# Altium schematic symbol library 1.47.SCHLIB: 44 symbols
Pins are listed as number, name and electrical type; pins without a type are passive.

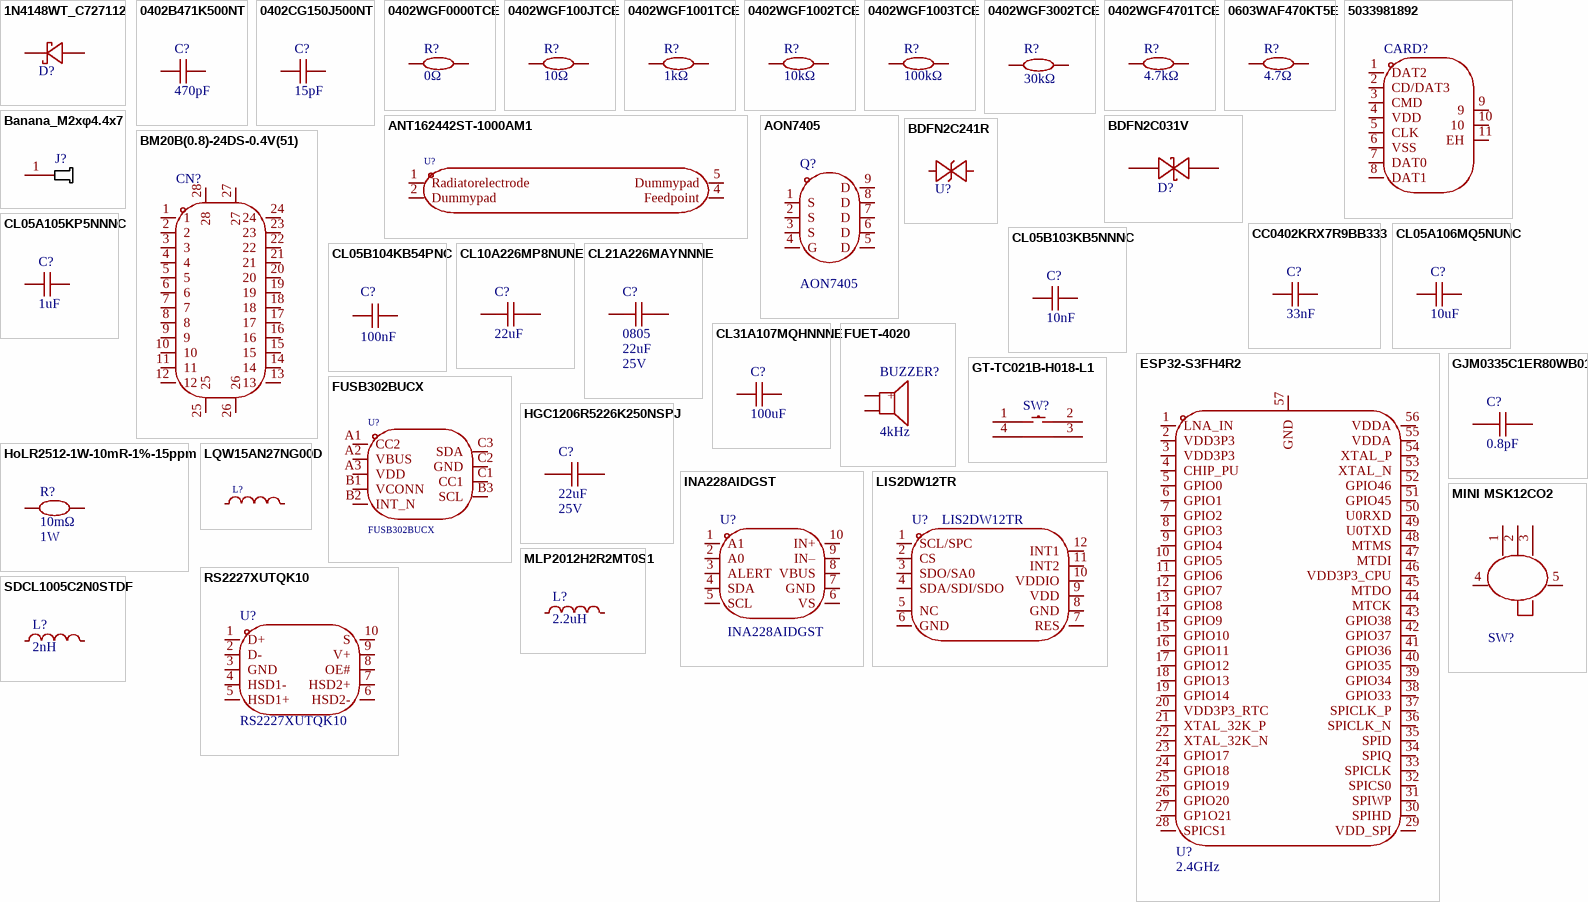
[diagram p0: symbols 1N4148WT_C727112 to SDCL1005C2N0STDF]

## 1N4148WT_C727112
designator D?, comment 1N4148WT  (value not drawn)
二极管配置:独立式;正向压降(Vf):1.25V@150mA;直流反向耐压(Vr):75V;平均整流电流(Io):125mA;反向恢复时间(trr):4ns;; Manufacturer: TWGMC(台湾迪嘉); Symbol: 1N4148WT_C727112; Add into BOM: yes; Diode Configuration: 独立式; Reverse Voltage (Vr): 75V; Average Rectified Current (Io): 125mA; Reverse Leakage Current: 1uA@75V; Reverse Recovery Time (trr): 4ns; Device: 1N4148WT_C727112; LCSC Part Name: 电压:75V 电流:125mA; Supplier Part: C727112; Manufacturer Part: 1N4148WT; Supplier Footprint: SOD-523; JLCPCB Part Class: 扩展库; Datasheet: https://atta.szlcsc.com/upload/public/pdf/source/20200828/C727112_FCA71CBB186A515518FBD85DA79D41CF.pdf; Supplier: LCSC; Convert to PCB: yes; Forward Voltage (Vf@If): 1.25V@150mA; Operating Temperature: -65℃~+150℃@(Tj); Comment_1: 1N4148WT
footprint SOD-523_L1.2-W0.8-LS1.6-RD
3D model SOD-523_L1.2-W0.8-H0.7-LS1.6
pins: 1 C, 2 A

## 0402B471K500NT
designator C?, comment 470pF
容值:470pF;精度:±10%;额定电压:50V;材质(温度系数):X7R;; Manufacturer: FH(风华); Symbol: 0402B471K500NT; Add into BOM: yes; Tolerance: ±10%; Voltage Rated: 50V; Temperature Coefficient: X7R; Device: 0402B471K500NT; LCSC Part Name: 470pF ±10% 50V; Supplier Part: C1537; Manufacturer Part: 0402B471K500NT; Supplier Footprint: 0402; JLCPCB Part Class: 扩展库; Datasheet: https://atta.szlcsc.com/upload/public/pdf/source/20200305/C486355_26A10D38EF8C2A5C37091D0039909270.pdf; Supplier: LCSC; Convert to PCB: yes; Comment_1: 470pF; Value: 470pF
footprint C0402
3D model C0402_L1.0-W0.5-H0.5
pins: 1, 2

## 0402CG150J500NT
designator C?, comment 15pF
容值:15pF;精度:±5%;额定电压:50V;材质(温度系数):C0G;; Manufacturer: FH(风华); Symbol: 0402CG150J500NT; Add into BOM: yes; Tolerance: ±5%; Voltage Rated: 50V; Temperature Coefficient: C0G; Device: 0402CG150J500NT; LCSC Part Name: 15pF ±5% 50V; Supplier Part: C1548; Manufacturer Part: 0402CG150J500NT; Supplier Footprint: 0402; JLCPCB Part Class: 基础库; Datasheet: https://atta.szlcsc.com/upload/public/pdf/source/20200305/C486355_26A10D38EF8C2A5C37091D0039909270.pdf; Supplier: LCSC; Convert to PCB: yes; Comment_1: 15pF; Value: 15pF
footprint C0402
3D model C0402_L1.0-W0.5-H0.5
pins: 1, 2

## 0402WGF0000TCE
designator R?, comment 0Ω
电阻类型:厚膜电阻;阻值:0Ω;精度:±1%;功率:62.5mW;最大工作电压:50V;温度系数:±800ppm/℃;; Manufacturer: UNI-ROYAL(厚声); Symbol: 0402WGF0000TCE; Add into BOM: yes; Tolerance: ±1%; Power(Watts): 62.5mW; Overload Voltage (Max): 50V; Device: 0402WGF0000TCE; Supplier: LCSC; Manufacturer Part: 0402WGF0000TCE; Supplier Part: C17168; JLCPCB Part Class: 基础库; LCSC Part Name: 0Ω ±1% 62.5mW 厚膜电阻; Supplier Footprint: 0402; Datasheet: https://atta.szlcsc.com/upload/public/pdf/source/20200306/C422600_1E6D84923E4A46A82E41ADD87F860B5C.pdf; Convert to PCB: yes; Type: 厚膜电阻; Temperature Coefficient: ±800ppm/℃; Operating Temperature Range: -55℃~+155℃; Comment_1: 0Ω; Value: 0Ω
footprint R0402
3D model R0402_L1.0-W0.5-H0.5
pins: 1, 2

## 0402WGF100JTCE
designator R?, comment 10Ω
电阻类型:厚膜电阻;阻值:10Ω;精度:±1%;功率:62.5mW;最大工作电压:50V;温度系数:±200ppm/℃;; Manufacturer: UNI-ROYAL(厚声); Symbol: 0402WGF100JTCE; Add into BOM: yes; Tolerance: ±1%; Power(Watts): 62.5mW; Overload Voltage (Max): 50V; Device: 0402WGF100JTCE; Supplier: LCSC; Manufacturer Part: 0402WGF100JTCE; Supplier Part: C25077; JLCPCB Part Class: 基础库; LCSC Part Name: 10Ω ±1% 62.5mW 厚膜电阻; Supplier Footprint: 0402; Datasheet: https://atta.szlcsc.com/upload/public/pdf/source/20200306/C422600_1E6D84923E4A46A82E41ADD87F860B5C.pdf; Convert to PCB: yes; Type: 厚膜电阻; Temperature Coefficient: ±200ppm/℃; Operating Temperature Range: -55℃~+155℃; Comment_1: 10Ω; Value: 10Ω
footprint R0402
3D model R0402_L1.0-W0.5-H0.5
pins: 1, 2

## 0402WGF1001TCE
designator R?, comment 1kΩ
电阻类型:厚膜电阻;阻值:1kΩ;精度:±1%;功率:62.5mW;最大工作电压:50V;温度系数:±100ppm/℃;; Manufacturer: UNI-ROYAL(厚声); Symbol: 0402WGF1001TCE; Add into BOM: yes; Tolerance: ±1%; Power(Watts): 62.5mW; Overload Voltage (Max): 50V; Device: 0402WGF1001TCE; Supplier: LCSC; Manufacturer Part: 0402WGF1001TCE; Supplier Part: C11702; JLCPCB Part Class: 基础库; LCSC Part Name: 1kΩ ±1% 62.5mW 厚膜电阻; Supplier Footprint: 0402; Datasheet: https://atta.szlcsc.com/upload/public/pdf/source/20200306/C422600_1E6D84923E4A46A82E41ADD87F860B5C.pdf; Convert to PCB: yes; Type: 厚膜电阻; Temperature Coefficient: ±100ppm/℃; Operating Temperature Range: -55℃~+155℃; Comment_1: 1kΩ; Value: 1kΩ
footprint R0402
3D model R0402_L1.0-W0.5-H0.5
pins: 1, 2

## 0402WGF1002TCE
designator R?, comment 10kΩ
电阻类型:厚膜电阻;阻值:10kΩ;精度:±1%;功率:62.5mW;最大工作电压:50V;温度系数:±100ppm/℃;; Manufacturer: UNI-ROYAL(厚声); Symbol: 0402WGF1002TCE; Add into BOM: yes; Tolerance: ±1%; Power(Watts): 62.5mW; Overload Voltage (Max): 50V; Device: 0402WGF1002TCE; LCSC Part Name: 10kΩ ±1% 62.5mW 厚膜电阻; Supplier Part: C25744; Manufacturer Part: 0402WGF1002TCE; Supplier Footprint: 0402; JLCPCB Part Class: 基础库; Datasheet: https://atta.szlcsc.com/upload/public/pdf/source/20200306/C422600_1E6D84923E4A46A82E41ADD87F860B5C.pdf; Supplier: LCSC; Convert to PCB: yes; Type: 厚膜电阻; Temperature Coefficient: ±100ppm/℃; Operating Temperature Range: -55℃~+155℃; Comment_1: 10kΩ; Value: 10kΩ
footprint R0402
3D model R0402_L1.0-W0.5-H0.5
pins: 1, 2

## 0402WGF1003TCE
designator R?, comment 100kΩ
电阻类型:厚膜电阻;阻值:100kΩ;精度:±1%;功率:62.5mW;最大工作电压:50V;温度系数:±100ppm/℃;; Manufacturer: UNI-ROYAL(厚声); Symbol: 0402WGF1003TCE; Add into BOM: yes; Tolerance: ±1%; Power(Watts): 62.5mW; Overload Voltage (Max): 50V; Device: 0402WGF1003TCE; Supplier: LCSC; Manufacturer Part: 0402WGF1003TCE; Supplier Part: C25741; JLCPCB Part Class: 基础库; LCSC Part Name: 100kΩ ±1% 62.5mW 厚膜电阻; Supplier Footprint: 0402; Datasheet: https://atta.szlcsc.com/upload/public/pdf/source/20200306/C422600_1E6D84923E4A46A82E41ADD87F860B5C.pdf; Convert to PCB: yes; Type: 厚膜电阻; Temperature Coefficient: ±100ppm/℃; Operating Temperature Range: -55℃~+155℃; Comment_1: 100kΩ; Value: 100kΩ
footprint R0402
3D model R0402_L1.0-W0.5-H0.5
pins: 1, 2

## 0402WGF3002TCE
designator R?, comment 30kΩ
电阻类型:厚膜电阻;阻值:30kΩ;精度:±1%;功率:62.5mW;最大工作电压:50V;温度系数:±100ppm/℃;; Manufacturer: UNI-ROYAL(厚声); Symbol: 0402WGF3002TCE; Add into BOM: yes; Tolerance: ±1%; Power(Watts): 62.5mW; Overload Voltage (Max): 50V; Device: 0402WGF3002TCE; Supplier: LCSC; Manufacturer Part: 0402WGF3002TCE; Supplier Part: C25776; JLCPCB Part Class: 扩展库; LCSC Part Name: 30kΩ ±1% 62.5mW 厚膜电阻; Supplier Footprint: 0402; Datasheet: https://atta.szlcsc.com/upload/public/pdf/source/20200306/C422600_1E6D84923E4A46A82E41ADD87F860B5C.pdf; Convert to PCB: yes; Type: 厚膜电阻; Temperature Coefficient: ±100ppm/℃; Operating Temperature Range: -55℃~+155℃; Comment_1: 30kΩ; Value: 30kΩ
footprint R0402
3D model R0402_L1.0-W0.5-H0.5
pins: 1, 2

## 0402WGF4701TCE
designator R?, comment 4.7kΩ
电阻类型:厚膜电阻;阻值:4.7kΩ;精度:±1%;功率:62.5mW;最大工作电压:50V;温度系数:±100ppm/℃;; Manufacturer: UNI-ROYAL(厚声); Symbol: 0402WGF4701TCE; Add into BOM: yes; Tolerance: ±1%; Power(Watts): 62.5mW; Overload Voltage (Max): 50V; Device: 0402WGF4701TCE; Supplier: LCSC; Manufacturer Part: 0402WGF4701TCE; Supplier Part: C25900; JLCPCB Part Class: 基础库; LCSC Part Name: 4.7kΩ ±1% 62.5mW 厚膜电阻; Supplier Footprint: 0402; Datasheet: https://atta.szlcsc.com/upload/public/pdf/source/20200306/C422600_1E6D84923E4A46A82E41ADD87F860B5C.pdf; Convert to PCB: yes; Type: 厚膜电阻; Temperature Coefficient: ±100ppm/℃; Operating Temperature Range: -55℃~+155℃; Comment_1: 4.7kΩ; Value: 4.7kΩ
footprint R0402
3D model R0402_L1.0-W0.5-H0.5
pins: 1, 2

## 0603WAF470KT5E
designator R?, comment 4.7Ω
电阻类型:厚膜电阻;阻值:4.7Ω;精度:±1%;功率:100mW;最大工作电压:75V;温度系数:±400ppm/℃;; Manufacturer: UNI-ROYAL(厚声); Symbol: 0603WAF470KT5E; Add into BOM: yes; Tolerance: ±1%; Power(Watts): 100mW; Overload Voltage (Max): 75V; Device: 0603WAF470KT5E; Supplier: LCSC; Manufacturer Part: 0603WAF470KT5E; Supplier Part: C23164; JLCPCB Part Class: 基础库; LCSC Part Name: 4.7Ω ±1% 100mW 厚膜电阻; Supplier Footprint: 0603; Datasheet: https://atta.szlcsc.com/upload/public/pdf/source/20200306/C422600_1E6D84923E4A46A82E41ADD87F860B5C.pdf; Convert to PCB: yes; Type: 厚膜电阻; Temperature Coefficient: ±400ppm/℃; Operating Temperature Range: -55℃~+155℃; Comment_1: 4.7Ω; Value: 4.7Ω
footprint R0603
3D model R0603
pins: 1, 2

## 5033981892
designator CARD?  (value not drawn)
卡连接方式:自弹式;卡类型:MicroSD卡(TF卡);连接器类型:卡座;本体最大高度:1.28mm;触头镀层:金;工作温度范围:-25℃~+85℃;; Manufacturer: MOLEX; Symbol: 503398-1892; Add into BOM: yes; Card Connection Mode: 自弹式; Connector Type: 卡座; Maximum Body Height: 1.28mm; Device: 5033981892; LCSC Part Name: 自弹式 MicroSD卡(TF卡) 卡座; Supplier Part: C428492; Manufacturer Part: 5033981892; Supplier Footprint: SMD; JLCPCB Part Class: 扩展库; Datasheet: https://atta.szlcsc.com/upload/public/pdf/source/20190912/C428492_A41EF83BB8A3DB8C0B39EF65DFC54013.pdf; Supplier: LCSC; Convert to PCB: yes; Card Type: MicroSD卡(TF卡); Contact Plating: 金; Operating Temperature Range: -25℃~+85℃; Comment_1: 5033981892
footprint TF-SMD_503398-1892
3D model TF-SMD_503398-1892
pins: 1 DAT2, 2 CD/DAT3, 3 CMD, 4 VDD, 5 CLK, 6 VSS, 7 DAT0, 8 DAT1, 9, 10, 11 EH

## ANT162442ST-1000AM1
designator U?  (value not drawn)
天线类型:芯片天线;中心频点:2.442GHz;驻波比:3;; Manufacturer: TDK; Add into BOM: yes; Antenna Type: 芯片天线; VSWR: 3; Symbol: ANT162442ST-1000AM1; Device: ANT162442ST-1000AM1; Supplier: LCSC; Supplier Part: C5119334; Manufacturer Part: ANT162442ST-1000AM1; JLCPCB Part Class: 扩展库; LCSC Part Name: ANT162442ST-1000AM1; Supplier Footprint: SMD; Datasheet: https://atta.szlcsc.com/upload/public/pdf/source/20220726/5250FEEEC00E5085DF56EA09B238E8B2.pdf; Convert to PCB: yes; Central Frequency: 2.442GHz; Comment_1: ANT162442ST-1000AM1
footprint ANT-SMD_6P-L1.6-W0.8-L
3D model ANT-SMD_6P-L1.6-W0.8-H0.4
pins: 1 Radiatorelectrode, 2 Dummypad, 4 Feedpoint, 5 Dummypad

## AON7405
designator Q?
类型:1个P沟道;漏源电压(Vdss):30V;连续漏极电流(Id):50A;功率(Pd):6.25W;导通电阻(RDS(on)@Vgs,Id):6.2mΩ@10V,20A;阈值电压(Vgs(th)@Id):2.8V@250uA;; Manufacturer: AOS; Add into BOM: yes; Type: 1个P沟道; Drain Source Voltage (Vdss): 30V; Continuous Drain Current (Id): 50A; Power Dissipation (Pd): 6.25W; Symbol: AON7405; Device: AON7405; LCSC Part Name: 1个P沟道 耐压:30V 电流:50A; Supplier Part: C431194; Supplier Footprint: DFN-8(3.3x3.3); JLCPCB Part Class: 扩展库; Datasheet: https://atta.szlcsc.com/upload/public/pdf/source/20190920/C431194_88D1A85EB5F03F954D3EA863BE064D96.pdf; Supplier: LCSC; Convert to PCB: yes; Drain Source On Resistance (RDS(on)@Vgs,Id): 6.2mΩ@10V,20A; Gate Threshold Voltage (Vgs(th)@Id): 2.8V@250uA; Comment_1: AON7405; Manufacturer Part: AON7405
footprint DFN-8_L3.3-W3.3-P0.65-BL-3
3D model DFN-8_L3.3-W3.3-P0.65-BL-3
pins: 1 S, 2 S, 3 S, 4 G, 5 D, 6 D, 7 D, 8 D, 9 D

## Banana_M2xφ4.4x7
designator J?
K2台阶插座,Banana_M2xφ4.4x7; Add into BOM: yes; Symbol: Banana_M2xφ4.4x7; Device: Banana_M2xφ4.4x7; Convert to PCB: yes; Comment_1: Banana_M2xφ4.4x7
footprint Banana_M2xφ4.4x7_2
3D model Banana_M2xφ4.4x7 v1
pins: 1

## BDFN2C031V
designator D?  (value not drawn)
反向截止电压(Vrwm):3.3V;最大钳位电压:8V;峰值脉冲电流(Ipp)@10/1000us:11A@8/20us;击穿电压:3.7V;; Manufacturer: BORN(伯恩半导体); Add into BOM: yes; Reverse Stand-Off Voltage (Vrwm): 3.3V; Maximum Clamping Voltage: 8V; Breakdown Voltage: 3.7V; Type: TVS; Symbol: BDFN2C031V; Device: BDFN2C031V; Supplier: LCSC; Supplier Part: C152027; Manufacturer Part: BDFN2C031V; JLCPCB Part Class: 扩展库; LCSC Part Name: 双向TVS 3.3V截止 11A峰值脉冲; Supplier Footprint: DFN-2L; Datasheet: https://atta.szlcsc.com/upload/public/pdf/source/20180207/C152027_15179949174661359126.pdf; Convert to PCB: yes; Peak Pulse Current (Ipp)@10/1000us: 11A@8/20us; Comment_1: BDFN2C031V
footprint TSSLP-2-4_L1.0-W0.6-P0.65-BI
3D model TSSLP-2-4_L1.0-W0.6-P0.65-BI
pins: 1, 2

## BDFN2C241R
designator U?  (value not drawn)
反向截止电压(Vrwm):24V;; Manufacturer: BORN(伯恩半导体); Add into BOM: yes; Reverse Stand-Off Voltage (Vrwm): 24V; Symbol: BDFN2C241R; Device: BDFN2C241R; LCSC Part Name: BDFN2C241R; Supplier Part: C18199521; Manufacturer Part: BDFN2C241R; Supplier Footprint: DFN1006; Datasheet: https://atta.szlcsc.com/upload/public/pdf/source/20230925/6B9DC4383CBC032E3F8EFD077BCC83F2.pdf; Supplier: LCSC; Convert to PCB: yes; Type: ESD; Comment_1: BDFN2C241R
footprint DFN1006-2L-BI
3D model DFN1006-2L-BI
pins: 1 K, 2 A

## BM20B(0.8)-24DS-0.4V(51)
designator CN?  (value not drawn)
PIN总数:-;间距:0.4mm;公母:母;安装方式:立贴;行数:2;额定电流:300mA;工作温度范围:-35℃~+85℃;; Manufacturer: HRS(广濑); Add into BOM: yes; Pitch: 0.4mm; Gender: 母; Current Rating (Max): 300mA; Symbol: BM20B(0.8)-24DS-0.4V(51); Device: BM20B(0.8)-24DS-0.4V(51); LCSC Part Name: 间距:0.4mm 母 立贴; Supplier Part: C424537; Manufacturer Part: BM20B(0.8)-24DS-0.4V(51); Supplier Footprint: SMD,P=0.4mm; JLCPCB Part Class: 扩展库; Datasheet: https://atta.szlcsc.com/upload/public/pdf/source/20190903/C424543_A61D720FD0DF8CC4A194B7C6C8E1C4BB.pdf; Supplier: LCSC; Convert to PCB: yes; Number of Pins: -; Mounting Style: 立贴; Number of Rows: 2; Contact Plating: 金; Operating Temperature Range: -35℃~+85℃; Comment_1: BM20B(0.8)-24DS-0.4V(51)
footprint CONN-SMD_BM20B-0.8-24DS-0.4V-51
3D model CONN-SMD_BM20B-0.8-24DS-0.4V-51
pins: 1, 2, 3, 4, 5, 6, 7, 8, 9, 10, 11, 12, 13, 14, 15, 16, 17, 18, 19, 20, 21, 22, 23, 24, 25, 26, 27, 28

## CC0402KRX7R9BB333
designator C?, comment 33nF
容值:33nF;精度:±10%;额定电压:50V;材质(温度系数):X7R;; Manufacturer: YAGEO(国巨); Symbol: CC0402KRX7R9BB333; Add into BOM: yes; Tolerance: ±10%; Voltage Rated: 50V; Temperature Coefficient: X7R; Device: CC0402KRX7R9BB333; Supplier: LCSC; Manufacturer Part: CC0402KRX7R9BB333; Supplier Part: C106862; JLCPCB Part Class: 扩展库; LCSC Part Name: 33nF ±10% 50V; Supplier Footprint: 0402; Datasheet: https://atta.szlcsc.com/upload/public/pdf/source/20170919/C131031_1505787245477976978.pdf; Convert to PCB: yes; Comment_1: 33nF; Value: 33nF
footprint C0402
3D model C0402_L1.0-W0.5-H0.5
pins: 1, 2

## CL05A105KP5NNNC
designator C?, comment 1uF
容值:1uF;精度:±10%;额定电压:10V;材质(温度系数):X5R;; Manufacturer: SAMSUNG(三星); Symbol: CL05A105KP5NNNC; Add into BOM: yes; Tolerance: ±10%; Voltage Rated: 10V; Temperature Coefficient: X5R; Device: CL05A105KP5NNNC; Supplier: LCSC; Manufacturer Part: CL05A105KP5NNNC; Supplier Part: C14445; JLCPCB Part Class: 扩展库; LCSC Part Name: 1uF ±10% 10V; Supplier Footprint: 0402; Datasheet: https://atta.szlcsc.com/upload/public/pdf/source/20160218/1457707763339.pdf; Convert to PCB: yes; Comment_1: 1uF; Value: 1uF
footprint C0402
3D model C0402_L1.0-W0.5-H0.5
pins: 1, 2

## CL05A106MQ5NUNC
designator C?, comment 10uF
容值:10uF;精度:±20%;额定电压:6.3V;材质(温度系数):X5R;; Manufacturer: SAMSUNG(三星); Symbol: CL05A106MQ5NUNC; Add into BOM: yes; Tolerance: ±20%; Voltage Rated: 6.3V; Temperature Coefficient: X5R; Device: CL05A106MQ5NUNC; Supplier: LCSC; Manufacturer Part: CL05A106MQ5NUNC; Value: 10uF; Supplier Part: C15525; JLCPCB Part Class: 基础库; LCSC Part Name: 10uF ±20% 6.3V; Supplier Footprint: 0402; Datasheet: https://atta.szlcsc.com/upload/public/pdf/source/20220823/2B02EE04F8F211D38A52DCB16EB6BEBA.pdf; Convert to PCB: yes; Comment_1: 10uF
footprint C0402
3D model C0402_L1.0-W0.5-H0.5
pins: 1, 2

## CL05B103KB5NNNC
designator C?, comment 10nF
容值:10nF;精度:±10%;额定电压:50V;材质(温度系数):X7R;; Manufacturer: SAMSUNG(三星); Symbol: CL05B103KB5NNNC; Add into BOM: yes; Tolerance: ±10%; Voltage Rated: 50V; Temperature Coefficient: X7R; Device: CL05B103KB5NNNC; LCSC Part Name: 10nF ±10% 50V; Supplier Part: C15195; Manufacturer Part: CL05B103KB5NNNC; Supplier Footprint: 0402; JLCPCB Part Class: 基础库; Datasheet: https://atta.szlcsc.com/upload/public/pdf/source/20160218/1457707763339.pdf; Supplier: LCSC; Convert to PCB: yes; Value: 10nF; Comment_1: 10nF
footprint C0402
3D model C0402_L1.0-W0.5-H0.5
pins: 1, 2

## CL05B104KB54PNC
designator C?, comment 100nF
容值:100nF;精度:±10%;额定电压:50V;材质(温度系数):X7R;; Manufacturer: SAMSUNG(三星); Symbol: CL05B104KB54PNC; Add into BOM: yes; Tolerance: ±10%; Voltage Rated: 50V; Temperature Coefficient: X7R; Device: CL05B104KB54PNC; LCSC Part Name: 100nF ±10% 50V; Supplier Part: C307331; Manufacturer Part: CL05B104KB54PNC; Supplier Footprint: 0402; JLCPCB Part Class: 基础库; Datasheet: https://atta.szlcsc.com/upload/public/pdf/source/20160218/1457707763339.pdf; Supplier: LCSC; Convert to PCB: yes; Value: 100nF; Comment_1: 100nF
footprint C0402
3D model C0402_L1.0-W0.5-H0.5
pins: 1, 2

## CL10A226MP8NUNE
designator C?, comment 22uF
容值:22uF;精度:±20%;额定电压:10V;材质(温度系数):X5R;; Manufacturer: SAMSUNG(三星); Symbol: CL10A226MP8NUNE; Add into BOM: yes; Tolerance: ±20%; Voltage Rated: 10V; Temperature Coefficient: X5R; Device: CL10A226MP8NUNE; LCSC Part Name: 22uF ±20% 10V; Supplier Part: C86295; Manufacturer Part: CL10A226MP8NUNE; Supplier Footprint: 0603; JLCPCB Part Class: 扩展库; Datasheet: https://atta.szlcsc.com/upload/public/pdf/source/20160218/1457707763339.pdf; Supplier: LCSC; Convert to PCB: yes; Value: 22uF; Comment_1: 22uF
footprint C0603
3D model C0603_L1.6-W0.8-H0.8
pins: 1, 2

## CL21A226MAYNNNE
designator C?, comment Supplier Footprint: 0805  Voltage Rated: 25V  (hidden comment: 22uF)
容值:22uF;精度:±20%;额定电压:25V;材质(温度系数):X5R;; Manufacturer: SAMSUNG(三星); Symbol: CL21A226MAYNNNE; Add into BOM: yes; Tolerance: ±20%; Temperature Coefficient: X5R; Device: CL21A226MAYNNNE; LCSC Part Name: 22uF ±20% 25V; Supplier Part: C602037; Manufacturer Part: CL21A226MAYNNNE; JLCPCB Part Class: 扩展库; Datasheet: https://atta.szlcsc.com/upload/public/pdf/source/20200609/C602037_1A0D619693E608A1BF6E80154254E2DB.pdf; Supplier: LCSC; Convert to PCB: yes; Value: 22uF; Comment_1: 22uF
footprint C0805
3D model C0805_L2.0-W1.3-H1.3
pins: 1, 2

## CL31A107MQHNNNE
designator C?, comment 100uF
容值:100uF;精度:±20%;额定电压:6.3V;材质(温度系数):X5R;; Manufacturer: SAMSUNG(三星); Symbol: CL31A107MQHNNNE; Add into BOM: yes; Tolerance: ±20%; Voltage Rated: 6.3V; Temperature Coefficient: X5R; Device: CL31A107MQHNNNE; Supplier: LCSC; Manufacturer Part: CL31A107MQHNNNE; Value: 100uF; Supplier Part: C15008; JLCPCB Part Class: 基础库; LCSC Part Name: 100uF ±20% 6.3V; Supplier Footprint: 1206; Datasheet: https://atta.szlcsc.com/upload/public/pdf/source/20160218/1457707763339.pdf; Convert to PCB: yes; Comment_1: 100uF
footprint C1206
3D model C1206_L3.2-W1.6-H1.3
pins: 1, 2

## ESP32-S3FH4R2
designator U?, comment 2.4GHz
核心处理器:LX7芯片;频率:2.4GHz;天线形式:-;发射功率:21dBm;接收灵敏度:-;; Manufacturer: ESPRESSIF(乐鑫); Symbol: ESP32-S3FH4R2; Add into BOM: yes; Core Processor: LX7芯片; Support Interface: I2C；GPIO；JTAG；IrDA；SPI；I2S；PCM；SDIO；PWM；ADC; Output Power: 21dBm; Device: ESP32-S3FH4R2; LCSC Part Name: ESP32-S3FH4R2; Supplier Part: C3013940; Manufacturer Part: ESP32-S3FH4R2; Supplier Footprint: QFN-56(7x7); JLCPCB Part Class: 扩展库; Datasheet: https://atta.szlcsc.com/upload/public/pdf/source/20231007/F0479719405F4458344DA2610DF37B97.pdf; Supplier: LCSC; Convert to PCB: yes; Wireless Standard: -; Value: 2.4GHz; Antenna Type: -; Operating Voltage: -; Receive  Current: -; Send  Current: -; Sensitivity: -; Operating Temperature: -; Comment_1: 2.4GHz
footprint QFN-56_L7.0-W7.0-P0.40-TL-EP4.0
3D model QFN-56_L7.0-W7.0-P0.40-TL-EP4.0
pins: 1 LNA_IN, 2 VDD3P3, 3 VDD3P3, 4 CHIP_PU, 5 GPIO0, 6 GPIO1, 7 GPIO2, 8 GPIO3, 9 GPIO4, 10 GPIO5, 11 GPIO6, 12 GPIO7, 13 GPIO8, 14 GPIO9, 15 GPIO10, 16 GPIO11, 17 GPIO12, 18 GPIO13, 19 GPIO14, 20 VDD3P3_RTC, 21 XTAL_32K_P, 22 XTAL_32K_N, 23 GPIO17, 24 GPIO18, 25 GPIO19, 26 GPIO20, 27 GP1O21, 28 SPICS1, 29 VDD_SPI, 30 SPIHD, 31 SPIWP, 32 SPICS0, 33 SPICLK, 34 SPIQ, 35 SPID, 36 SPICLK_N, 37 SPICLK_P, 38 GPIO33, 39 GPIO34, 40 GPIO35, 41 GPIO36, 42 GPIO37, 43 GPIO38, 44 MTCK, 45 MTDO, 46 VDD3P3_CPU, 47 MTDI, 48 MTMS, 49 U0TXD, 50 U0RXD, 51 GPIO45, 52 GPIO46, 53 XTAL_N, 54 XTAL_P, 55 VDDA, 56 VDDA, 57 GND

## FUET-4020
designator BUZZER?, comment 4kHz
驱动方式:无源(外部驱动);构造类型:电磁式;频率:4kHz;声压(SPL):65dB@3V,10cm;; Manufacturer: FUET(福声科技); Add into BOM: yes; Technology Type: 电磁式; Operating Voltage: 2V~4V; Symbol: FST-4020; Device: FUET-4020; LCSC Part Name: 电压 3V 频率 4KHZ; Supplier Part: C391027; Manufacturer Part: FUET-4020; Supplier Footprint: SMD,4x4mm; JLCPCB Part Class: 扩展库; Datasheet: https://atta.szlcsc.com/upload/public/pdf/source/20191031/C391027_1FC1E5FCD05180B5ABC7B83EB3465454.pdf; Supplier: LCSC; Convert to PCB: yes; Oscillator Circuit: 无源(外部驱动); Value: 4kHz; Sound Pressure Level (SPL): 65dB@3V,10cm; Length: 4mm; Width: 4mm; Height: 2.5mm; Comment_1: 4kHz
footprint BUZ-SMD_L4.0-W4.0-P3.50-L
3D model BUZ-SMD_2P-L4.0-W4.0-H2.0
pins: 1 +, 2

## FUSB302BUCX
designator U?
应用功能:控制器;接口协议:USB;; Manufacturer: onsemi(安森美); Add into BOM: yes; Applications Function: 控制器; Protocol: USB; Supply Voltage: 2.8V~5.5V; Symbol: FUSB302BUCX; Device: FUSB302BUCX; Supplier: LCSC; Supplier Part: C891307; Manufacturer Part: FUSB302BUCX; JLCPCB Part Class: 扩展库; LCSC Part Name: 可编程 USB Type-C 控制器，带 PD（默认 SNK）; Supplier Footprint: WLCSP-9(1.2x1.3); Datasheet: https://atta.szlcsc.com/upload/public/pdf/source/20210625/C891307_1D7648C55FCBE18FD4CED19D1D957F92.pdf; Convert to PCB: yes; Operating Temperature: -40℃~+85℃; Comment_1: FUSB302BUCX
footprint WLCSP-9_L1.3-W1.2-R3-C3-P0.40-TL
3D model WLCSP-9_L1.3-W1.2-R3-C3-P0.40-TL
pins: A1 CC2, A2 VBUS, A3 VDD, B1 VCONN, B2 INT_N, B3 SCL, C1 CC1, C2 GND, C3 SDA

## GJM0335C1ER80WB01D
designator C?, comment 0.8pF
容值:0.8pF;额定电压:25V;材质(温度系数):C0G;; Manufacturer: muRata(村田); Symbol: GJM0335C1ER80WB01D; Add into BOM: yes; Voltage Rated: 25V; Temperature Coefficient: C0G; Device: GJM0335C1ER80WB01D; LCSC Part Name: 0.8pF 25V; Supplier Part: C408126; Manufacturer Part: GJM0335C1ER80WB01D; Supplier Footprint: 0201; JLCPCB Part Class: 扩展库; Datasheet: https://atta.szlcsc.com/upload/public/pdf/source/20200305/C490387_23319AE8C154DEB24C505E6C82A8106A.pdf; Supplier: LCSC; Convert to PCB: yes; Value: 0.8pF; Comment_1: 0.8pF
footprint C0402
3D model C0201_L0.6-W0.3-H0.3
pins: 1, 2

## GT-TC021B-H018-L1
designator SW?  (value not drawn)
电路结构:单刀单掷;按钮形状:矩形按钮;作用力:250gf;安装方式:卧贴;开关长度:5.6mm;开关宽度:4mm;开关高度:1.8mm;带支架:带支架;触点电流:50mA;额定电压(DC):12V;绝缘电阻:100MΩ;带灯:无;机械寿命:5万次;; Manufacturer: G-Switch(品赞); Add into BOM: yes; Circuit: 单刀单掷; Actuator Style: 矩形按钮; Operating Force: 250gf; Switch Length: 5.6mm; Switch Width: 4mm; Switch Height: 1.8mm; Strike Gundam: 带支架; Contact Current: 50mA; Voltage Rating (DC): 12V; Insulation Resistance: 100MΩ; Actuator/Cap Color: 白色; With Lamp: 无; Pin Style: SMD接片; Mechanical Life: 5万次; Symbol: GT-TC021B-H018-L1; Device: GT-TC021B-H018-L1; LCSC Part Name: 5.6*4*1.8mm 卧贴 轻触开关; Supplier Part: C963493; Manufacturer Part: GT-TC021B-H018-L1; Supplier Footprint: SMD; JLCPCB Part Class: 扩展库; Datasheet: https://atta.szlcsc.com/upload/public/pdf/source/20201201/C963212_A3F74D7D359D0B352A0FB9F1112D883A.pdf; Supplier: LCSC; Convert to PCB: yes; Mounting Style: 卧贴; Operating Temperature: -30℃~+85℃; Comment_1: GT-TC021B-H018-L1
footprint SW-SMD_GT-TC021B-H018-L1
3D model SW-SMD_GT-TC021B-H018-L1
pins: 1, 2, 3, 4

## HGC1206R5226K250NSPJ
designator C?, comment Voltage Rated: 25V  (hidden comment: 22uF)
容值:22uF;精度:±10%;额定电压:25V;材质(温度系数):X5R;; Manufacturer: Chinocera(华瓷); Symbol: HGC1206R5226K250NSPJ; Add into BOM: yes; Tolerance: ±10%; Temperature Coefficient: X5R; Device: HGC1206R5226K250NSPJ; LCSC Part Name: 22uF ±10% 25V; Supplier Part: C7432785; Manufacturer Part: HGC1206R5226K250NSPJ; Supplier Footprint: 1206; JLCPCB Part Class: 扩展库; Datasheet: https://atta.szlcsc.com/upload/public/pdf/source/20240320/FAC3FEC40A78BC5CCCE96C232A94D860.pdf; Supplier: LCSC; Convert to PCB: yes; Value: 22uF; Comment_1: 22uF
footprint C1206
3D model C1206_L3.2-W1.6-H1.3
pins: 1, 2

## HoLR2512-1W-10mR-1%-15ppm
designator R?, comment Power(Watts): 1W  (hidden comment: 10mΩ)
电阻类型:采样电阻;阻值:10mΩ;精度:±1%;功率:1W;温度系数:±15ppm/℃;安装方式:贴片;; Manufacturer: Milliohm(毫欧); Symbol: HOLR2512-1W-10MR-1%-15PPM; Add into BOM: yes; Tolerance: ±1%; Mounting Sytle: 贴片; Device: HoLR2512-1W-10mR-1%-15ppm; LCSC Part Name: 10mΩ ±1% 1W; Supplier Part: C2885415; Manufacturer Part: HoLR2512-1W-10mR-1%-15ppm; Supplier Footprint: 2512; JLCPCB Part Class: 扩展库; Datasheet: https://atta.szlcsc.com/upload/public/pdf/source/20210907/EFC5E613EA602FA39B24B3E78396C7B7.pdf; Supplier: LCSC; Convert to PCB: yes; Type: 采样电阻; Value: 10mΩ; Temperature Coefficient: ±15ppm/℃; Comment_1: 10mΩ
footprint RES-SMD_L6.3-W3.3_HOLR2512
3D model RES-SMD_L6.3-W3.3_HOLR2512
pins: 1, 2

## INA228AIDGST
designator U?
Manufacturer: TI(德州仪器); Add into BOM: yes; Symbol: INA228AIDGST; Device: INA228AIDGST; Supplier: LCSC; Supplier Part: C2862904; Manufacturer Part: INA228AIDGST; JLCPCB Part Class: 扩展库; LCSC Part Name: INA228AIDGST; Supplier Footprint: VSSOP-10-0.5mm; Datasheet: https://www.ti.com/cn/lit/gpn/ina228; Convert to PCB: yes; Comment_1: INA228AIDGST
footprint VSSOP-10_L3.0-W3.0-P0.50-LS4.9-BL
3D model VSSOP-10_L3.0-W3.0-H1.1-LS4.9-P0.50
pins: 1 A1, 2 A0, 3 ALERT, 4 SDA, 5 SCL, 6 VS, 7 GND, 8 VBUS, 9 IN–, 10 IN+

## LIS2DW12TR
designator U?
Manufacturer: ST(意法半导体); Add into BOM: yes; Symbol: LIS2DW12TR; Device: LIS2DW12TR; LCSC Part Name: LIS2DW12TR; Supplier Part: C189624; Manufacturer Part: LIS2DW12TR; Supplier Footprint: LGA-12; Datasheet: https://atta.szlcsc.com/upload/public/pdf/source/20180403/C189624_150963097ED842400E055DE40577DCB1.pdf; Supplier: LCSC; Convert to PCB: yes; Comment_1: LIS2DW12TR
footprint LGA-12_L2.0-W2.0-P0.50-BL
3D model LGA-12_L2.0-W2.0-H1.0-P0.50
pins: 1 SCL/SPC, 2 CS, 3 SDO/SA0, 4 SDA/SDI/SDO, 5 NC, 6 GND, 7 RES, 8 GND, 9 VDD, 10 VDDIO, 11 INT2, 12 INT1

## LQW15AN27NG00D
designator L?, comment 27nH  (value not drawn)
电感值:27nH;精度:±2%;额定电流:280mA;饱和电流(Isat):-;; Manufacturer: muRata(村田); Symbol: LQW15AN27NG00D; Add into BOM: yes; Tolerance: ±2%; Rated Current: 280mA; DC Resistance (DCR): 520mΩ; Device: LQW15AN27NG00D; Supplier: LCSC; Manufacturer Part: LQW15AN27NG00D; Value: 27nH; Supplier Part: C98057; JLCPCB Part Class: 扩展库; LCSC Part Name: 27nH ±2%; Supplier Footprint: 0402; Datasheet: https://atta.szlcsc.com/upload/public/pdf/source/20191016/C437364_463D6516B3BAE72B1DA0754F3D9B8308.pdf; Convert to PCB: yes; Saturation Current (Isat): -; Ratings: -; Comment_1: 27nH
footprint IND-SMD_L1.0-W0.5-2
3D model IND-SMD_L1.0-W0.5-2
pins: 1, 2

## MINI MSK12CO2
designator SW?  (value not drawn)
电路结构:单刀双掷;安装方式:卧贴;开关颜色:-;额定电流(DC):50mA;额定电压(DC):12V;额定电流(AC):-;额定电压(AC):-;机械寿命:1万次;; Manufacturer: SHOU HAN(首韩); Add into BOM: yes; Circuit: 单刀双掷; Pin Style: SMD接片; Switch Length: 5mm; Switch Width: 2.75mm; Switch Height: 1.4mm; Current Rating (DC): 50mA; Voltage Rating (DC): 12V; Mechanical Life: 1万次; Symbol: MINI MSK12CO2; Device: MINI MSK12CO2; LCSC Part Name: 迷你七脚两档侧拨拨动 mini七7脚 微型拨动; Supplier Part: C2681570; Manufacturer Part: MINI MSK12CO2; Supplier Footprint: SMD; JLCPCB Part Class: 扩展库; Datasheet: https://atta.szlcsc.com/upload/public/pdf/source/20210224/C2681570_D263F9C605E4588A4AE6114B72AE4C72.pdf; Supplier: LCSC; Convert to PCB: yes; Actuator Style: -; Mounting Style: 卧贴; Actuator Color: -; Current Rating (AC): -; Voltage Rating (AC): -; Operating Temperature: -16℃~+60℃; Comment_1: MINI MSK12CO2
footprint SW-SMD_MSK12CO2
3D model SW-SMD_MSK12CO2
pins: 1, 2, 3, 4, 5

## MLP2012H2R2MT0S1
designator L?, comment 2.2uH
电感值:2.2uH;精度:±20%;额定电流:1A;; Manufacturer: TDK; Symbol: MLP2012H2R2MT0S1; Add into BOM: yes; Tolerance: ±20%; Rated Current: 1A; DC Resistance (DCR): 150mΩ; Device: MLP2012H2R2MT0S1; LCSC Part Name: 2.2uH ±20%; Supplier Part: C383369; Manufacturer Part: MLP2012H2R2MT0S1; Supplier Footprint: 0805; JLCPCB Part Class: 扩展库; Datasheet: https://atta.szlcsc.com/upload/public/pdf/source/20200619/C383369_BBB8A606AA8670BE18592D802F1F69D5.pdf; Supplier: LCSC; Convert to PCB: yes; Value: 2.2uH; Comment_1: 2.2uH
footprint L0805
3D model R0805_L2.0-W1.3-H0.6
pins: 1, 2

## RS2227XUTQK10
designator U?
开关电路:-;; Manufacturer: RUNIC(润石); Add into BOM: yes; Symbol: RS2227XUTQK10; Device: RS2227XUTQK10; Supplier: LCSC; Supplier Part: C783419; Manufacturer Part: RS2227XUTQK10; JLCPCB Part Class: 扩展库; LCSC Part Name: 模拟开关; Supplier Footprint: WQFN-10(1.4x1.8); Datasheet: https://atta.szlcsc.com/upload/public/pdf/source/20200914/C783419_7DE0403E7FB394838894EC6D91B9FF13.pdf; Convert to PCB: yes; Switch Circuit: -; Comment_1: RS2227XUTQK10
footprint WQFN-10_L1.8-W1.4-P0.40-BL
3D model UQFN-10_L1.8-W1.4-H0.5-P0.40
pins: 1 D+, 2 D-, 3 GND, 4 HSD1-, 5 HSD1+, 6 HSD2-, 7 HSD2+, 8 OE#, 9 V+, 10 S

## SDCL1005C2N0STDF
designator L?, comment 2nH
电感值:2nH;精度:-;额定电流:300mA;饱和电流(Isat):-;直流电阻(DCR):200mΩ;; Manufacturer: Sunlord(顺络); Symbol: SDCL1005C2N0STDF; Add into BOM: yes; Rated Current: 300mA; DC Resistance (DCR): 200mΩ; Q @ Freq: 8@100MHz; Frequency - Self Resonant: 6GHz; Device: SDCL1005C2N0STDF; Supplier: LCSC; Manufacturer Part: SDCL1005C2N0STDF; Value: 2nH; Supplier Part: C43365; JLCPCB Part Class: 扩展库; LCSC Part Name: 2nH; Supplier Footprint: 0402; Datasheet: https://atta.szlcsc.com/upload/public/pdf/source/20231027/6126A3AAC5912C34388756BE22DEE00C.pdf; Convert to PCB: yes; Tolerance: -; Saturation Current (Isat): -; Ratings: -; Comment_1: 2nH
footprint L0402
3D model L0402_L1.0-W0.5-H0.5_BEAD
pins: 1, 2

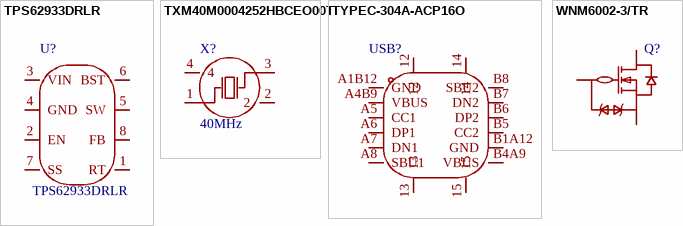
[diagram p1: symbols TPS62933DRLR to WNM6002-3/TR]

## TPS62933DRLR
designator U?
功能类型:降压型;输出类型:可调;输入电压:3.8V~30V;输出电压:800mV~22V;输出电流(最大值):3A;; Manufacturer: TI(德州仪器); Add into BOM: yes; Function: 降压型; Output Type: 可调; Output Current (Max): 3A; Switching Frequency: 2.2MHz; Synchronous Rectification: 是; Number of Outputs: 1; Topology: 降压式; Switch tube (built-in/external): 内置; Symbol: TPS62933DRLR; Device: TPS62933DRLR; Supplier: LCSC; Supplier Part: C3200405; Manufacturer Part: TPS62933DRLR; LCSC Part Name: TPS62933DRLR; Supplier Footprint: SOT-583; Datasheet: https://www.ti.com/cn/lit/gpn/tps62933; Convert to PCB: yes; Input Voltage: 3.8V~30V; Output Voltage: 800mV~22V; Operating Temperature: -40℃~+150℃@(TJ); Comment_1: TPS62933DRLR
footprint SOT-583-8_L2.1-W1.2-P0.50-LS1.6-BR
3D model SOT-583-8_L2.1-W1.2-P0.50-LS1.6-BR
pins: 1 RT, 2 EN, 3 VIN, 4 GND, 5 SW, 6 BST, 7 SS, 8 FB

## TXM40M0004252HBCEO00T
designator X?, comment 40MHz
晶振类型:贴片晶振;频率:40MHz;常温频差:±10ppm;外接负载电容:15pF;频率稳定度(全温):±30ppm;; Manufacturer: YJX(雅晶鑫); Symbol: TXM40M0004252HBCEO00T; Add into BOM: yes; Crystal Type: 贴片晶振; Normal temperature Frequency Tolerance: ±10ppm; External load capacitor: 15pF; Frequency Stability(Full temperature range): ±30ppm; Equivalent Series Resistance (ESR): 25Ω; Device: TXM40M0004252HBCEO00T; LCSC Part Name: 40MHz ±10ppm 15pF; Supplier Part: C284176; Manufacturer Part: TXM40M0004252HBCEO00T; Supplier Footprint: SMD2520-4P; JLCPCB Part Class: 扩展库; Datasheet: https://atta.szlcsc.com/upload/public/pdf/source/20180910/C284176_7C227CDEF2A90AF7BF47AD2F9582364C.pdf; Supplier: LCSC; Convert to PCB: yes; Value: 40MHz; Operating Temperature: -40℃~+85℃; Comment_1: 40MHz
footprint CRYSTAL-SMD_4P-L2.5-W2.0-BL
3D model CRYSTAL-SMD_4P-L2.5-W2.0-BL
pins: 1 OSC1, 2, 3 OSC2, 4

## TYPEC-304A-ACP16O
designator USB?  (value not drawn)
连接器类型:Type-C;标准:USB 3.1;公母:母;端口数量:1;触点数量:16P;安装方式:卧贴;额定电流 - 电源:5A;触头材质:-;触头镀层:-;工作温度范围:-45℃~+85℃;焊接温度(最大值):260℃;; Manufacturer: XUNPU(讯普); Add into BOM: yes; Connector Type: Type-C; Gender: 母; Number of Ports: 1; Number of Contacts: 16P; Current Rating - Power (Max): 5A; Soldering Temperature(Max): 260℃; Symbol: TYPEC-304A-ACP16O; Device: TYPEC-304A-ACP16O; Supplier: LCSC; Supplier Part: C2909610; Manufacturer Part: TYPEC-304A-ACP16O; JLCPCB Part Class: 扩展库; LCSC Part Name: Type-C 母 卧贴; Supplier Footprint: SMD; Datasheet: https://atta.szlcsc.com/upload/public/pdf/source/20211029/5A76838C591B377E5BF09726BF37DE5A.pdf; Convert to PCB: yes; Standard: USB 3.1; Mounting Style: 卧贴; Contact Material: -; Contact Plating: -; Operating Temperature Range: -45℃~+85℃; Comment_1: TYPEC-304A-ACP16O
footprint USB-SMD_TYPEC-304A-ACP16O
3D model USB-SMD_TYPEC-304A-ACP16O
pins: 12, 13, 14, 15, A1B12 GND, A4B9 VBUS, A5 CC1, A6 DP1, A7 DN1, A8 SBU1, B1A12 GND, B4A9 VBUS, B5 CC2, B6 DP2, B7 DN2, B8 SBU2

## WNM6002-3/TR
designator Q?  (value not drawn)
类型:N沟道;漏源电压(Vdss):60V;连续漏极电流(Id):300mA;功率(Pd):370mW;导通电阻(RDS(on)@Vgs,Id):2Ω@10V,370mA;阈值电压(Vgs(th)@Id):2V@250uA;; Manufacturer: WILLSEMI(韦尔); Add into BOM: yes; Type: N沟道; Drain Source Voltage (Vdss): 60V; Continuous Drain Current (Id): 300mA; Power Dissipation (Pd): 370mW; Symbol: WNM6002-3/TR; Device: WNM6002-3/TR; LCSC Part Name: N沟道 耐压:60V 电流:300mA; Supplier Part: C501342; Manufacturer Part: WNM6002-3/TR; Supplier Footprint: SOT-323-3; JLCPCB Part Class: 扩展库; Datasheet: https://atta.szlcsc.com/upload/public/pdf/source/20200324/C501342_29E9D9C6E1199381F55B20D6C6C9F64A.pdf; Supplier: LCSC; Convert to PCB: yes; Drain Source On Resistance (RDS(on)@Vgs,Id): 2Ω@10V,370mA; Gate Threshold Voltage (Vgs(th)@Id): 2V@250uA; Comment_1: WNM6002-3/TR
footprint SOT-323-3_L2.0-W1.3-P1.30-LS2.1-BR
3D model SOT-323-3_L2.0-W1.3-H1.0-LS2.1-P1.30
pins: 1 G, 2 S, 3 D